# Altium footprint library SI2309DS.PcbLib: 4 footprints
Each footprint in its own frame and in the unit in brackets; x right, y up, seen from the top. Pads: shape width x height; smd on the part's side, far side on the other; paste and mask are expansions set on the pad; w line width, h text height; cw(c..) or ccw(c..) is an arc to the next point about the centre after c.
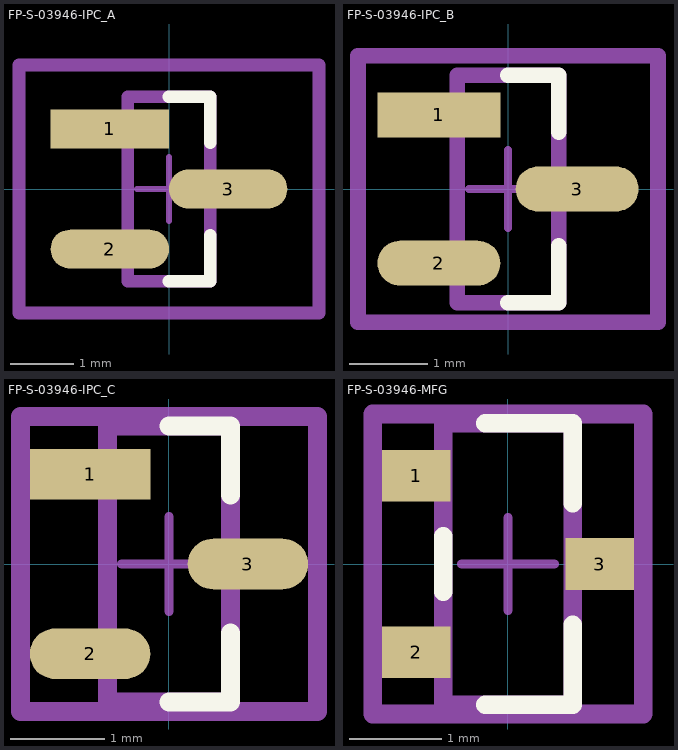
[diagram p0: the footprints below, top view; thin cyan lines are the x and y axes]

## FP-S-03946-IPC_A [mm]
pads (3):
  rect 1.874x0.616 smd paste+0 mask+0: 1(-0.935,0.95)
  rrect100% 1.874x0.616 smd paste+0 mask+0: 2(-0.935,-0.95) 3(0.935,0)
Top Overlay:
  lines w0.2: 0,-1.46 0.65,-1.46 0.65,-0.73 ; 0,1.46 0.65,1.46 0.65,0.73
Top Assembly:
  lines w0.2: -2.372,-1.96 2.372,-1.96 2.372,1.96 -2.372,1.96 -2.372,-1.96
  text ".Designator" at 0,-0.001 h1
Top 3D Body:
  lines w0.2: -0.65,-1.46 0.65,-1.46 0.65,1.46 -0.65,1.46 -0.65,-1.46
Top Courtyard:
  lines w0.2: -2.372,-1.96 2.372,-1.96 2.372,1.96 -2.372,1.96 -2.372,-1.96
Top Component Center:
  lines w0.1: -0.5,0 0.5,0 ; 0,-0.5 0,0.5
3D body "Trans_Vishay_SI2318DS-T1-E3_eec.STEP": height 0.25, standoff 0, extent -2.372,-1.96 2.372,1.96

## FP-S-03946-IPC_B [mm]
pads (3):
  rect 1.574x0.576 smd paste+0 mask+0: 1(-0.885,0.95)
  rrect100% 1.574x0.576 smd paste+0 mask+0: 2(-0.885,-0.95) 3(0.885,0)
Top Overlay:
  lines w0.2: 0,-1.46 0.65,-1.46 0.65,-0.73 ; 0,1.46 0.65,1.46 0.65,0.73
Top Assembly:
  lines w0.2: -1.922,-1.71 1.922,-1.71 1.922,1.71 -1.922,1.71 -1.922,-1.71
  text ".Designator" at 0,-0.001 h1
Top 3D Body:
  lines w0.2: -0.65,-1.46 0.65,-1.46 0.65,1.46 -0.65,1.46 -0.65,-1.46
Top Courtyard:
  lines w0.2: -1.922,-1.71 1.922,-1.71 1.922,1.71 -1.922,1.71 -1.922,-1.71
Top Component Center:
  lines w0.1: -0.5,0 0.5,0 ; 0,-0.5 0,0.5
3D body "Trans_Vishay_SI2318DS-T1-E3_eec.STEP": height 0.25, standoff 0, extent -1.922,-1.71 1.922,1.71

## FP-S-03946-IPC_C [mm]
pads (3):
  rect 1.274x0.536 smd paste+0 mask+0: 1(-0.835,0.95)
  rrect100% 1.274x0.536 smd paste+0 mask+0: 2(-0.835,-0.95) 3(0.835,0)
Top Overlay:
  lines w0.2: 0,-1.46 0.65,-1.46 0.65,-0.73 ; 0,1.46 0.65,1.46 0.65,0.73
Top Assembly:
  lines w0.2: -1.572,-1.56 1.572,-1.56 1.572,1.56 -1.572,1.56 -1.572,-1.56
  text ".Designator" at 0,-0.001 h1
Top 3D Body:
  lines w0.2: -0.65,-1.46 0.65,-1.46 0.65,1.46 -0.65,1.46 -0.65,-1.46
Top Courtyard:
  lines w0.2: -1.572,-1.56 1.572,-1.56 1.572,1.56 -1.572,1.56 -1.572,-1.56
Top Component Center:
  lines w0.1: -0.5,0 0.5,0 ; 0,-0.5 0,0.5
3D body "Trans_Vishay_SI2318DS-T1-E3_eec.STEP": height 0.25, standoff 0, extent -1.572,-1.56 1.572,1.56

## FP-S-03946-MFG [mil]
pads (3):
  rect 29x22 smd paste+0 mask+0: 1(-39,37.5) 2(-39,-37.5) 3(39,0)
Top Overlay:
  lines w7.87: -27.56,-11.74 -27.56,11.74 ; -9.74,-59.84 27.56,-59.84 27.56,-25.76 ; -9.74,59.84 27.56,59.84 27.56,25.76
Top Assembly:
  lines w7.87: -57.44,-63.78 57.44,-63.78 57.44,63.78 -57.44,63.78 -57.44,-63.78
  text ".Designator" at 0,-0.02 h39.37
Top 3D Body:
  lines w7.87: -27.56,-59.84 27.56,-59.84 27.56,59.84 -27.56,59.84 -27.56,-59.84
Top Courtyard:
  lines w7.87: -57.44,-63.78 57.44,-63.78 57.44,63.78 -57.44,63.78 -57.44,-63.78
Top Component Center:
  lines w3.94: -19.68,0 19.68,0 ; 0,-19.68 0,19.68
3D body "Trans_Vishay_SI2318DS-T1-E3_eec.STEP": height 10, standoff 0, extent -57.44,-63.78 57.44,63.78